# Altium schematic symbol library 553-0122F.SchLib: 1 symbol
Pins are listed as number, name and electrical type; pins without a type are passive.

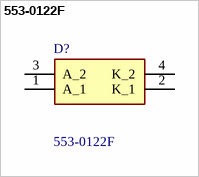
[diagram p0: symbol 553-0122F]

## 553-0122F
designator D?
553 Series CBI 3mm 2hx1w G, Cath R; Manufacturer_Name: Dialight; Geometry.Height: 9.65mm; Mouser Part Number: 645-553-0122F; Mouser Price/Stock: https://www.mouser.co.uk/ProductDetail/Dialight/553-0122F?qs=0KZIkTEbAAuchVNYUHfDmw%3D%3D; Manufacturer_Part_Number: 553-0122F; Datasheet Link: https://s3-us-west-2.amazonaws.com/catsy.557/C17277.pdf
footprint 5530122F
pins: 1 A_1, 2 K_1, 3 A_2, 4 K_2